# EAGLE library part TDA8945S (library Audio-Power-amlifier V.2.0)
The TDA8945S is a single-channel audio power amplifier with an output power of 15 W at an 8 W load and an 18 V supply. The circuit contains a Bridge Tied Load (BTL) amplifier with an all-NPN output stage and standby/mute logic. The TDA8945S comes in a 9-lead single in-line (SIL) power package. The TDA8945S is printed-circuit board (PCB) compatible with all other types in the TDA894x family. One PCB footprint accommodates both the mono and the stereo products.
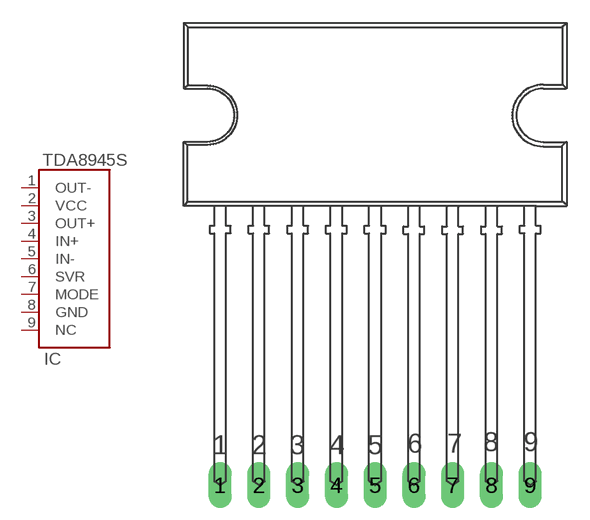
[diagram p149: symbol with the pads of SOT131-2H; footprint SOT131-2H]

Designator prefix IC

## TDA8945S  [SOT131-2H]
1  OUT-  out
2  VCC  pwr
3  OUT+  out
4  IN+  in
5  IN-  in
6  SVR
7  MODE
8  GND  pwr
9  NC  nc

## Footprint SOT131-2H (pad centres in mm)
drill 1 long: 1 -10.16,0; 2 -7.62,0; 3 -5.08,0; 4 -2.54,0; 5 0,0; 6 2.54,0; 7 5.08,0; 8 7.62,0; 9 10.16,0